# EAGLE library part BATTERY_18650-HOLDER (library Cing Library)
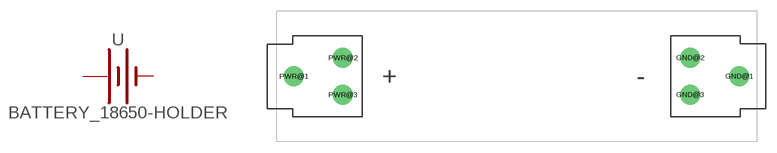
[diagram p9: symbol with the pads of BATTERY_18650-HOLDER; footprint BATTERY_18650-HOLDER]

Designator prefix -

## BATTERY_18650-HOLDER  [BATTERY_18650-HOLDER]
GND@1  -  pwr
GND@2  -1  pwr
GND@3  -2  pwr
PWR@1  +  pwr
PWR@2  +1  pwr
PWR@3  +2  pwr

## Footprint BATTERY_18650-HOLDER (pad centres in mm)
18650 Lithium Ion Cell Battery Holders PCB mount clips properly spaced to hold a 18650 Lithium Ion Cell battery. Datasheet <https://cdn.sparkfun.com/datasheets/Prototyping/54.PDF> Devices Using BATTERY
drill 1.829: GND@1 30.628,0.01; GND@2 23.88,2.55; GND@3 23.88,-2.53; PWR@1 -30.628,-0.01; PWR@2 -23.88,2.53; PWR@3 -23.88,-2.55